# EAGLE library part OPA4340 (library OPAx340)
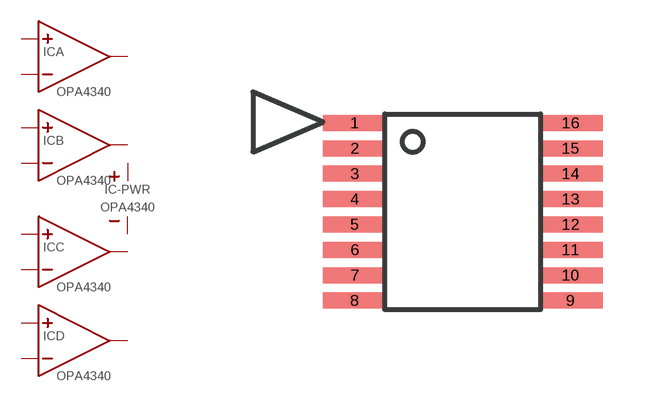
[diagram p0: symbol with the pads of SSOP-16; footprint SSOP-16]

Designator prefix IC; gates A=OPAMP B=OPAMP C=OPAMP D=OPAMP -PWR=PWR

## OPA4340EA  [SSOP-16]
1  A:OUT  out
2  A:INV  in
3  A:NINV  in
4  -PWR:V+  pwr
5  B:NINV  in
6  B:INV  in
7  B:OUT  out
10  C:OUT  out
11  C:INV  in
12  C:NINV  in
13  -PWR:V-  pwr
14  D:NINV  in
15  D:INV  in
16  D:OUT  out

## Footprint SSOP-16 (pad centres in mm)
smd 1.6 x 0.4: 1 -2.7,2.223; 2 -2.7,1.587; 3 -2.7,0.953; 4 -2.7,0.318; 5 -2.7,-0.318; 6 -2.7,-0.953; 7 -2.7,-1.587; 8 -2.7,-2.223; 9 2.7,-2.223; 10 2.7,-1.587; 11 2.7,-0.953; 12 2.7,-0.318; 13 2.7,0.318; 14 2.7,0.953; 15 2.7,1.587; 16 2.7,2.223